# EAGLE library part ADP1612 (library ADP1612)
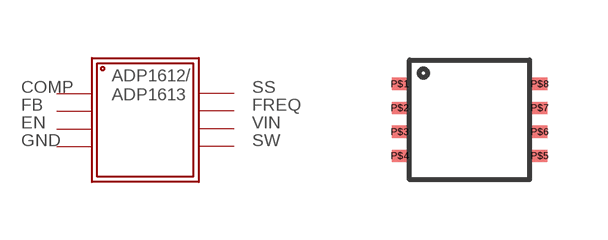
[diagram p0: symbol with the pads of ADP1612; footprint ADP1612]

Designator prefix -

## ADP1612  [ADP1612]
P$1  P$1
P$2  P$2
P$3  P$3
P$4  P$4
P$5  P$5
P$6  P$6
P$7  P$7
P$8  P$8

## Footprint ADP1612 (pad centres in mm)
smd 0.4 x 0.3: P$1 -9.25,5.4; P$2 -9.25,4.8; P$3 -9.25,4.2; P$4 -9.25,3.6; P$5 -5.75,3.6; P$6 -5.75,4.2; P$7 -5.75,4.8; P$8 -5.75,5.4